# Altium integrated library cd4051.IntLib: 1 symbol
Pins are listed as number, name and electrical type; pins without a type are passive.

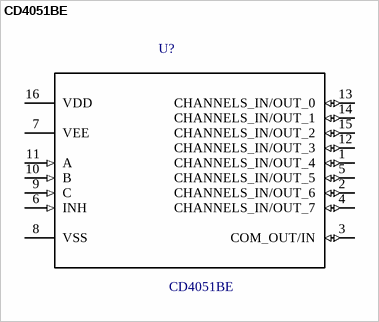
[diagram p0: symbol CD4051BE]

## CD4051BE
designator U?
i/c Analg Mx/Dmx 8chan 4051_p_; MF: Texas Instruments; Availability: Unavailable; Package: DIP-16 Intersil; SnapEDA_Link: https://www.snapeda.com/parts/CD4051BE/Texas%20Instruments/view-part/?ref=snap; Price: None; MP: CD4051BE; Value: *
footprint *DIP16
footprint *SOIC16
pins: 1 CHANNELS_IN/OUT_4 (io), 2 CHANNELS_IN/OUT_6 (io), 3 COM_OUT/IN (io), 4 CHANNELS_IN/OUT_7 (io), 5 CHANNELS_IN/OUT_5 (io), 6 INH (in), 7 VEE (power), 8 VSS (power), 9 C (in), 10 B (in), 11 A (in), 12 CHANNELS_IN/OUT_3 (io), 13 CHANNELS_IN/OUT_0 (io), 14 CHANNELS_IN/OUT_1 (io), 15 CHANNELS_IN/OUT_2 (io), 16 VDD (power)